# Altium footprint library LM2596S_5.01.PcbLib: 6 footprints
Each footprint in its own frame and in the unit in brackets; x right, y up, seen from the top. Pads: shape width x height; smd on the part's side, far side on the other; paste and mask are expansions set on the pad; w line width, h text height; cw(c..) or ccw(c..) is an arc to the next point about the centre after c.
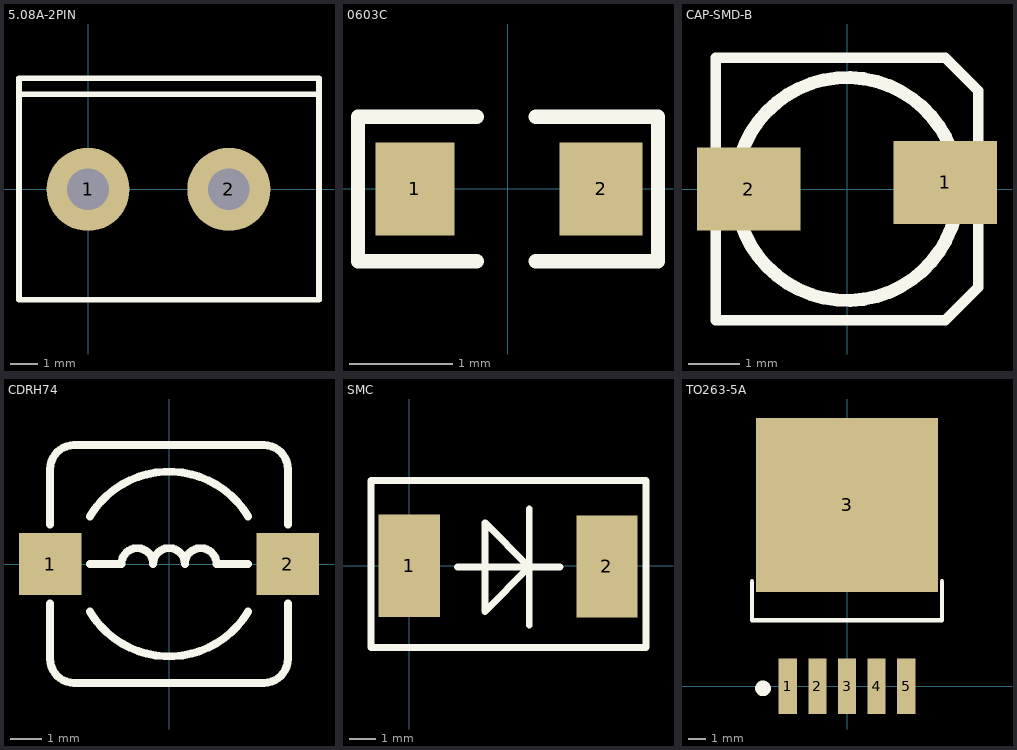
[diagram p0: the footprints below, top view; thin cyan lines are the x and y axes]

## 5.08A-2PIN [mm]
pads (2):
  round 3 hole 1.5: 1(0,0) 2(5.08,0)
Top Overlay:
  lines w0.2: -2.489,3.429 8.255,3.429 ; -2.489,-3.988 -2.489,4.013 8.331,4.013 8.331,-3.988 -2.489,-3.988
3D body "2-5.08 (2).stp": height 14.2, standoff -3.5, extent -2.54,-5.205 8.361,4.595

## 0603C [mm]
pads (2):
  rect 0.762x0.9 smd: 1(-0.9,0)
  rect 0.8x0.9 smd: 2(0.9,0)
Top Overlay:
  lines w0.14: -0.3,-0.7 -1.45,-0.7 -1.45,0.7 -0.3,0.7 ; 0.266,-0.7 1.45,-0.7 1.45,0.7 0.266,0.7
3D body "User Library-0603 SMD Capacitor.STEP": height 0.3, standoff 0, extent -0.8,-0.4 0.8,0.4

## CAP-SMD-B [mm]
pads (2):
  rect 2x1.6 / inner rect 0x0 / far side rect 0x0 all layers, no hole: 1(1.905,0.136) 2(-1.905,0.009)
Top Overlay:
  circle w0.254: c0,0.009 r2.159
  lines w0.2: -2.54,-2.531 -2.54,2.549 1.905,2.549 2.54,1.914 2.54,-1.896 1.905,-2.531 -2.54,-2.531
3D body "SL-B.STEP": height 5.2, standoff 0, extent -2.3,-2.15 2.3,2.15

## CDRH74 [mm]
pads (2):
  rect 2x2 smd: 1(-3.81,0) 2(3.81,0)
Top Overlay:
  lines w0.254: -3.81,-1.27 -3.81,-3.048 ccw(c-3.048,-3.048) -3.048,-3.81 3.048,-3.81 ccw(c3.048,-3.048) 3.81,-3.048 3.81,-1.27 ; -3.81,1.27 -3.81,3.048 cw(c-3.048,3.048) -3.048,3.81 3.048,3.81 cw(c3.048,3.048) 3.81,3.048 3.81,1.27 ; -2.54,-1.524 ccw(c0,0) 2.54,-1.524 ; -2.54,0 -1.524,0 cw(c-1.016,0) -0.508,0 cw(c0,0) 0.508,0 cw(c1.016,0) 1.524,0 2.54,0 ; -2.54,1.524 cw(c0,0) 2.54,1.524
3D body "CDRH74.STEP": height 4.5, standoff 0, extent -3.65,-3.65 3.65,3.65

## SMC [mil]
pads (2):
  rect 90x149.84 smd: 1(0,0)
  rect 90x149.63 smd: 2(290,-1)
Top Overlay:
  lines w10: 71,-2 221,-2 ; 176,-87 176,83 ; -56,-120 -56,125 347,125 347,-120 -56,-120 ; 111,-67 176,-2 111,63 111,-67
3D body "DO-214AB.STEP": height 106.3, standoff 0, extent -14.84,-117.09 304.84,127

## TO263-5A [mm]
pads (6):
  rect 1.05x3.2 smd: 1(-3.4,0) 2(-1.7,0) 3(0,0) 4(1.7,0) 5(3.4,0)
  rect 10.45x10 smd: 3(0,10.414)
Top Overlay:
  circle w0.5: c-4.826,-0.127 r0.2
  lines w0.254: -5.461,6.037 -5.461,3.787 5.461,3.787 5.461,6.037
3D body "TO263-5A.STEP": height 4.5, standoff 0, extent -5,-0.01 5,13.317